# Altium integrated library Inductor - RF.IntLib: 95 symbols (part 1 of 2)
Pins are listed as number, name and electrical type; pins without a type are passive.

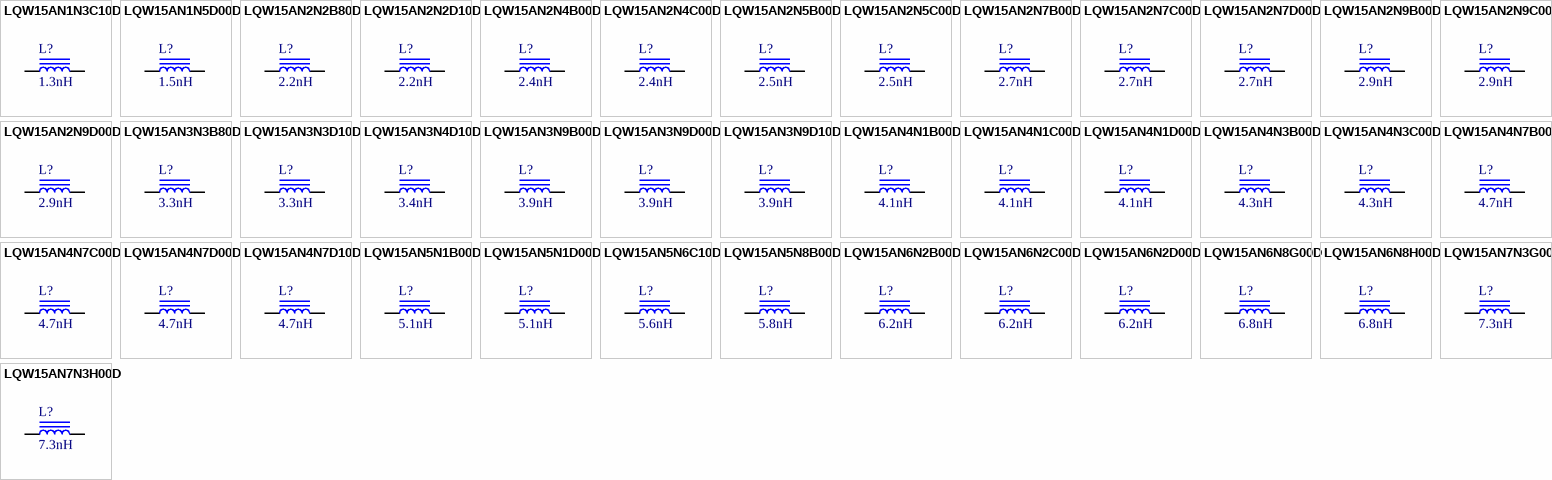
[diagram p0: symbols LQW15AN1N3C10D to LQW15AN7N3H00D]

## LQW15AN1N3C10D
designator L?, comment 1.3nH
FIXED IND 1.3NH 1.2A 17 MOHM 0402; Part Number: LQW15AN1N3C10D; Manufacturer: Murata Electronics North America; TemperatureRange: -55C ~ 125C; Tolerance: 0.2nH; Type: Wirewound; Q at Frequency: 20 @ 250MHz; DC Resistance: 17 mOhm Max; Shielding: Unshielded; Value: 1.3nH; PartId: 6437; Supplier 1: Digi-Key; Supplier Part Number 1: 490-6780-2-ND; ComponentLink1Description: Datasheet; ComponentLink1URL: http://search.murata.co.jp/Ceramy/image/img/PDF/ENG/L0075S0080LQW15A_10.pdf; ComponentLink2Description: Digi-Key listing; ComponentLink2URL: http://digikey.com/product-detail/en/LQW15AN1N3C10D/490-6780-2-ND/2594865; Price: 0.088; Device Package: 0402 (1005 Metric)
footprint IND 0402/1005 RF WW
pins: 1, 2

## LQW15AN1N5D00D
designator L?, comment 1.5nH
FIXED IND 1.5NH 1A 30 MOHM 0402; Part Number: LQW15AN1N5D00D; Manufacturer: Murata Electronics North America; TemperatureRange: -55C ~ 125C; Tolerance: 0.5nH; Type: Wirewound; Q at Frequency: 10 @ 250MHz; DC Resistance: 30 mOhm Max; Shielding: Unshielded; Value: 1.5nH; PartId: 6359; Supplier 1: Digi-Key; Supplier Part Number 1: 490-1136-2-ND; ComponentLink1Description: Datasheet; ComponentLink1URL: http://search.murata.co.jp/Ceramy/image/img/PDF/ENG/L0075S0080LQW15A_00.pdf; ComponentLink2Description: Digi-Key listing; ComponentLink2URL: http://digikey.com/product-detail/en/LQW15AN1N5D00D/490-1136-2-ND/584345; Price: 0.0689; Device Package: 0402 (1005 Metric)
footprint IND 0402/1005 RF WW
pins: 1, 2

## LQW15AN2N2B80D
designator L?, comment 2.2nH
FIXED IND 2.2NH 2.53A 22 MOHM; Part Number: LQW15AN2N2B80D; Manufacturer: Murata Electronics North America; TemperatureRange: -55C ~ 125C; Tolerance: 0.1nH; Type: Wirewound; Q at Frequency: 30 @ 250MHz; DC Resistance: 22 mOhm Max; Shielding: Unshielded; Value: 2.2nH; PartId: 6439; Supplier 1: Digi-Key; Supplier Part Number 1: 490-7632-2-ND; ComponentLink1Description: Datasheet; ComponentLink1URL: http://psearch.murata.com/inductor/product/LQW15AN2N2B80%23.pdf; ComponentLink2Description: Digi-Key listing; ComponentLink2URL: http://digikey.com/product-detail/en/LQW15AN2N2B80D/490-7632-2-ND/4292345; Price: 0.1102; Device Package: 0402 (1005 Metric)
footprint IND 0402/1005 RF WW
pins: 1, 2

## LQW15AN2N2D10D
designator L?, comment 2.2nH
FIXED IND 2.2NH 1A 27 MOHM 0402; Part Number: LQW15AN2N2D10D; Manufacturer: Murata Electronics North America; TemperatureRange: -55C ~ 125C; Tolerance: 0.5nH; Type: Wirewound; Q at Frequency: 25 @ 250MHz; DC Resistance: 27 mOhm Max; Shielding: Unshielded; Value: 2.2nH; PartId: 6432; Supplier 1: Digi-Key; Supplier Part Number 1: 490-6795-2-ND; ComponentLink1Description: Datasheet; ComponentLink1URL: http://search.murata.co.jp/Ceramy/image/img/PDF/ENG/L0075S0080LQW15A_10.pdf; ComponentLink2Description: Digi-Key listing; ComponentLink2URL: http://digikey.com/product-detail/en/LQW15AN2N2D10D/490-6795-2-ND/2594881; Price: 0.0843; Device Package: 0402 (1005 Metric)
footprint IND 0402/1005 RF WW
pins: 1, 2

## LQW15AN2N4B00D
designator L?, comment 2.4nH
FIXED IND 2.4NH 850MA 50 MOHM; Part Number: LQW15AN2N4B00D; Manufacturer: Murata Electronics North America; TemperatureRange: -55C ~ 125C; Tolerance: 0.1nH; Type: Wirewound; Q at Frequency: 20 @ 250MHz; DC Resistance: 50 mOhm Max; Shielding: Unshielded; Value: 2.4nH; PartId: 6422; Supplier 1: Digi-Key; Supplier Part Number 1: 490-6796-2-ND; ComponentLink1Description: Datasheet; ComponentLink1URL: http://search.murata.co.jp/Ceramy/image/img/PDF/ENG/L0075S0080LQW15A_00.pdf; ComponentLink2Description: Digi-Key listing; ComponentLink2URL: http://digikey.com/product-detail/en/LQW15AN2N4B00D/490-6796-2-ND/2594882; Price: 0.0807; Device Package: 0402 (1005 Metric)
footprint IND 0402/1005 RF WW
pins: 1, 2

## LQW15AN2N4C00D
designator L?, comment 2.4nH
FIXED IND 2.4NH 850MA 50 MOHM; Part Number: LQW15AN2N4C00D; Manufacturer: Murata Electronics North America; TemperatureRange: -55C ~ 125C; Tolerance: 0.2nH; Type: Wirewound; Q at Frequency: 20 @ 250MHz; DC Resistance: 50 mOhm Max; Shielding: Unshielded; Value: 2.4nH; PartId: 6379; Supplier 1: Digi-Key; Supplier Part Number 1: 490-6797-2-ND; ComponentLink1Description: Datasheet; ComponentLink1URL: http://search.murata.co.jp/Ceramy/image/img/PDF/ENG/L0075S0080LQW15A_00.pdf; ComponentLink2Description: Digi-Key listing; ComponentLink2URL: http://digikey.com/product-detail/en/LQW15AN2N4C00D/490-6797-2-ND/2594883; Price: 0.077; Device Package: 0402 (1005 Metric)
footprint IND 0402/1005 RF WW
pins: 1, 2

## LQW15AN2N5B00D
designator L?, comment 2.5nH
FIXED IND 2.5NH 850MA 50 MOHM; Part Number: LQW15AN2N5B00D; Manufacturer: Murata Electronics North America; TemperatureRange: -55C ~ 125C; Tolerance: 0.1nH; Type: Wirewound; Q at Frequency: 20 @ 250MHz; DC Resistance: 50 mOhm Max; Shielding: Unshielded; Value: 2.5nH; PartId: 6407; Supplier 1: Digi-Key; Supplier Part Number 1: 490-8437-2-ND; ComponentLink1Description: Datasheet; ComponentLink1URL: http://search.murata.co.jp/Ceramy/image/img/PDF/ENG/L0075S0080LQW15A_00.pdf; ComponentLink2Description: Digi-Key listing; ComponentLink2URL: http://digikey.com/product-detail/en/LQW15AN2N5B00D/490-8437-2-ND/2594886; Price: 0.0807; Device Package: 0402 (1005 Metric)
footprint IND 0402/1005 RF WW
pins: 1, 2

## LQW15AN2N5C00D
designator L?, comment 2.5nH
FIXED IND 2.5NH 850MA 50 MOHM; Part Number: LQW15AN2N5C00D; Manufacturer: Murata Electronics North America; TemperatureRange: -55C ~ 125C; Tolerance: 0.2nH; Type: Wirewound; Q at Frequency: 20 @ 250MHz; DC Resistance: 50 mOhm Max; Shielding: Unshielded; Value: 2.5nH; PartId: 6388; Supplier 1: Digi-Key; Supplier Part Number 1: 490-6798-2-ND; ComponentLink1Description: Datasheet; ComponentLink1URL: http://search.murata.co.jp/Ceramy/image/img/PDF/ENG/L0075S0080LQW15A_00.pdf; ComponentLink2Description: Digi-Key listing; ComponentLink2URL: http://digikey.com/product-detail/en/LQW15AN2N5C00D/490-6798-2-ND/2594887; Price: 0.077; Device Package: 0402 (1005 Metric)
footprint IND 0402/1005 RF WW
pins: 1, 2

## LQW15AN2N7B00D
designator L?, comment 2.7nH
FIXED IND 2.7NH 850MA 50 MOHM; Part Number: LQW15AN2N7B00D; Manufacturer: Murata Electronics North America; TemperatureRange: -55C ~ 125C; Tolerance: 0.1nH; Type: Wirewound; Q at Frequency: 20 @ 250MHz; DC Resistance: 50 mOhm Max; Shielding: Unshielded; Value: 2.7nH; PartId: 6398; Supplier 1: Digi-Key; Supplier Part Number 1: 490-6799-2-ND; ComponentLink1Description: Datasheet; ComponentLink1URL: http://search.murata.co.jp/Ceramy/image/img/PDF/ENG/L0075S0080LQW15A_00.pdf; ComponentLink2Description: Digi-Key listing; ComponentLink2URL: http://digikey.com/product-detail/en/LQW15AN2N7B00D/490-6799-2-ND/2594889; Price: 0.0807; Device Package: 0402 (1005 Metric)
footprint IND 0402/1005 RF WW
pins: 1, 2

## LQW15AN2N7C00D
designator L?, comment 2.7nH
FIXED IND 2.7NH 850MA 50 MOHM; Part Number: LQW15AN2N7C00D; Manufacturer: Murata Electronics North America; TemperatureRange: -55C ~ 125C; Tolerance: 0.2nH; Type: Wirewound; Q at Frequency: 20 @ 250MHz; DC Resistance: 50 mOhm Max; Shielding: Unshielded; Value: 2.7nH; PartId: 6380; Supplier 1: Digi-Key; Supplier Part Number 1: 490-6800-2-ND; ComponentLink1Description: Datasheet; ComponentLink1URL: http://search.murata.co.jp/Ceramy/image/img/PDF/ENG/L0075S0080LQW15A_00.pdf; ComponentLink2Description: Digi-Key listing; ComponentLink2URL: http://digikey.com/product-detail/en/LQW15AN2N7C00D/490-6800-2-ND/2594890; Price: 0.077; Device Package: 0402 (1005 Metric)
footprint IND 0402/1005 RF WW
pins: 1, 2

## LQW15AN2N7D00D
designator L?, comment 2.7nH
FIXED IND 2.7NH 850MA 50 MOHM; Part Number: LQW15AN2N7D00D; Manufacturer: Murata Electronics North America; TemperatureRange: -55C ~ 125C; Tolerance: 0.5nH; Type: Wirewound; Q at Frequency: 20 @ 250MHz; DC Resistance: 50 mOhm Max; Shielding: Unshielded; Value: 2.7nH; PartId: 6356; Supplier 1: Digi-Key; Supplier Part Number 1: 490-1137-2-ND; ComponentLink1Description: Datasheet; ComponentLink1URL: http://search.murata.co.jp/Ceramy/image/img/PDF/ENG/L0075S0080LQW15A_00.pdf; ComponentLink2Description: Digi-Key listing; ComponentLink2URL: http://digikey.com/product-detail/en/LQW15AN2N7D00D/490-1137-2-ND/584346; Price: 0.0689; Device Package: 0402 (1005 Metric)
footprint IND 0402/1005 RF WW
pins: 1, 2

## LQW15AN2N9B00D
designator L?, comment 2.9nH
FIXED IND 2.9NH 750MA 70 MOHM; Part Number: LQW15AN2N9B00D; Manufacturer: Murata Electronics North America; TemperatureRange: -55C ~ 125C; Tolerance: 0.1nH; Type: Wirewound; Q at Frequency: 20 @ 250MHz; DC Resistance: 70 mOhm Max; Shielding: Unshielded; Value: 2.9nH; PartId: 6410; Supplier 1: Digi-Key; Supplier Part Number 1: 490-6801-2-ND; ComponentLink1Description: Datasheet; ComponentLink1URL: http://search.murata.co.jp/Ceramy/image/img/PDF/ENG/L0075S0080LQW15A_00.pdf; ComponentLink2Description: Digi-Key listing; ComponentLink2URL: http://digikey.com/product-detail/en/LQW15AN2N9B00D/490-6801-2-ND/2594891; Price: 0.0807; Device Package: 0402 (1005 Metric)
footprint IND 0402/1005 RF WW
pins: 1, 2

## LQW15AN2N9C00D
designator L?, comment 2.9nH
FIXED IND 2.9NH 750MA 70 MOHM; Part Number: LQW15AN2N9C00D; Manufacturer: Murata Electronics North America; TemperatureRange: -55C ~ 125C; Tolerance: 0.2nH; Type: Wirewound; Q at Frequency: 20 @ 250MHz; DC Resistance: 70 mOhm Max; Shielding: Unshielded; Value: 2.9nH; PartId: 6390; Supplier 1: Digi-Key; Supplier Part Number 1: 490-8438-2-ND; ComponentLink1Description: Datasheet; ComponentLink1URL: http://search.murata.co.jp/Ceramy/image/img/PDF/ENG/L0075S0080LQW15A_00.pdf; ComponentLink2Description: Digi-Key listing; ComponentLink2URL: http://digikey.com/product-detail/en/LQW15AN2N9C00D/490-8438-2-ND/2594892; Price: 0.077; Device Package: 0402 (1005 Metric)
footprint IND 0402/1005 RF WW
pins: 1, 2

## LQW15AN2N9D00D
designator L?, comment 2.9nH
FIXED IND 2.9NH 750MA 70 MOHM; Part Number: LQW15AN2N9D00D; Manufacturer: Murata Electronics North America; TemperatureRange: -55C ~ 125C; Tolerance: 0.5nH; Type: Wirewound; Q at Frequency: 20 @ 250MHz; DC Resistance: 70 mOhm Max; Shielding: Unshielded; Value: 2.9nH; PartId: 6375; Supplier 1: Digi-Key; Supplier Part Number 1: 490-8439-2-ND; ComponentLink1Description: Datasheet; ComponentLink1URL: http://search.murata.co.jp/Ceramy/image/img/PDF/ENG/L0075S0080LQW15A_00.pdf; ComponentLink2Description: Digi-Key listing; ComponentLink2URL: http://digikey.com/product-detail/en/LQW15AN2N9D00D/490-8439-2-ND/2594893; Price: 0.0733; Device Package: 0402 (1005 Metric)
footprint IND 0402/1005 RF WW
pins: 1, 2

## LQW15AN3N3B80D
designator L?, comment 3.3nH
FIXED IND 3.3NH 2A 30 MOHM 0402; Part Number: LQW15AN3N3B80D; Manufacturer: Murata Electronics North America; TemperatureRange: -55C ~ 125C; Tolerance: 0.1nH; Type: Wirewound; Q at Frequency: 30 @ 250MHz; DC Resistance: 30 mOhm Max; Shielding: Unshielded; Value: 3.3nH; PartId: 6440; Supplier 1: Digi-Key; Supplier Part Number 1: 490-7641-2-ND; ComponentLink1Description: Datasheet; ComponentLink1URL: http://psearch.murata.com/inductor/product/LQW15AN3N3B80%23.pdf; ComponentLink2Description: Digi-Key listing; ComponentLink2URL: http://digikey.com/product-detail/en/LQW15AN3N3B80D/490-7641-2-ND/4292354; Price: 0.1102; Device Package: 0402 (1005 Metric)
footprint IND 0402/1005 RF WW
pins: 1, 2

## LQW15AN3N3D10D
designator L?, comment 3.3nH
FIXED IND 3.3NH 900MA 40 MOHM; Part Number: LQW15AN3N3D10D; Manufacturer: Murata Electronics North America; TemperatureRange: -55C ~ 125C; Tolerance: 0.5nH; Type: Wirewound; Q at Frequency: 30 @ 250MHz; DC Resistance: 40 mOhm Max; Shielding: Unshielded; Value: 3.3nH; PartId: 6433; Supplier 1: Digi-Key; Supplier Part Number 1: 490-6809-2-ND; ComponentLink1Description: Datasheet; ComponentLink1URL: http://search.murata.co.jp/Ceramy/image/img/PDF/ENG/L0075S0080LQW15A_10.pdf; ComponentLink2Description: Digi-Key listing; ComponentLink2URL: http://digikey.com/product-detail/en/LQW15AN3N3D10D/490-6809-2-ND/2594904; Price: 0.0843; Device Package: 0402 (1005 Metric)
footprint IND 0402/1005 RF WW
pins: 1, 2

## LQW15AN3N4D10D
designator L?, comment 3.4nH
FIXED IND 3.4NH 900MA 40 MOHM; Part Number: LQW15AN3N4D10D; Manufacturer: Murata Electronics North America; TemperatureRange: -55C ~ 125C; Tolerance: 0.5nH; Type: Wirewound; Q at Frequency: 30 @ 250MHz; DC Resistance: 40 mOhm Max; Shielding: Unshielded; Value: 3.4nH; PartId: 6434; Supplier 1: Digi-Key; Supplier Part Number 1: 490-6810-2-ND; ComponentLink1Description: Datasheet; ComponentLink1URL: http://search.murata.co.jp/Ceramy/image/img/PDF/ENG/L0075S0080LQW15A_10.pdf; ComponentLink2Description: Digi-Key listing; ComponentLink2URL: http://digikey.com/product-detail/en/LQW15AN3N4D10D/490-6810-2-ND/2594906; Price: 0.0843; Device Package: 0402 (1005 Metric)
footprint IND 0402/1005 RF WW
pins: 1, 2

## LQW15AN3N9B00D
designator L?, comment 3.9nH
FIXED IND 3.9NH 750MA 70 MOHM; Part Number: LQW15AN3N9B00D; Manufacturer: Murata Electronics North America; TemperatureRange: -55C ~ 125C; Tolerance: 0.1nH; Type: Wirewound; Q at Frequency: 25 @ 250MHz; DC Resistance: 70 mOhm Max; Shielding: Unshielded; Value: 3.9nH; PartId: 6424; Supplier 1: Digi-Key; Supplier Part Number 1: 490-6812-2-ND; ComponentLink1Description: Datasheet; ComponentLink1URL: http://search.murata.co.jp/Ceramy/image/img/PDF/ENG/L0075S0080LQW15A_00.pdf; ComponentLink2Description: Digi-Key listing; ComponentLink2URL: http://digikey.com/product-detail/en/LQW15AN3N9B00D/490-6812-2-ND/2594909; Price: 0.0807; Device Package: 0402 (1005 Metric)
footprint IND 0402/1005 RF WW
pins: 1, 2

## LQW15AN3N9D00D
designator L?, comment 3.9nH
FIXED IND 3.9NH 750MA 70 MOHM; Part Number: LQW15AN3N9D00D; Manufacturer: Murata Electronics North America; TemperatureRange: -55C ~ 125C; Tolerance: 0.5nH; Type: Wirewound; Q at Frequency: 25 @ 250MHz; DC Resistance: 70 mOhm Max; Shielding: Unshielded; Value: 3.9nH; PartId: 6372; Supplier 1: Digi-Key; Supplier Part Number 1: 490-6814-2-ND; ComponentLink1Description: Datasheet; ComponentLink1URL: http://search.murata.co.jp/Ceramy/image/img/PDF/ENG/L0075S0080LQW15A_00.pdf; ComponentLink2Description: Digi-Key listing; ComponentLink2URL: http://digikey.com/product-detail/en/LQW15AN3N9D00D/490-6814-2-ND/2594911; Price: 0.0733; Device Package: 0402 (1005 Metric)
footprint IND 0402/1005 RF WW
pins: 1, 2

## LQW15AN3N9D10D
designator L?, comment 3.9nH
FIXED IND 3.9NH 900MA 40 MOHM; Part Number: LQW15AN3N9D10D; Manufacturer: Murata Electronics North America; TemperatureRange: -55C ~ 125C; Tolerance: 0.5nH; Type: Wirewound; Q at Frequency: 30 @ 250MHz; DC Resistance: 40 mOhm Max; Shielding: Unshielded; Value: 3.9nH; PartId: 6435; Supplier 1: Digi-Key; Supplier Part Number 1: 490-6815-2-ND; ComponentLink1Description: Datasheet; ComponentLink1URL: http://search.murata.co.jp/Ceramy/image/img/PDF/ENG/L0075S0080LQW15A_10.pdf; ComponentLink2Description: Digi-Key listing; ComponentLink2URL: http://digikey.com/product-detail/en/LQW15AN3N9D10D/490-6815-2-ND/2594912; Price: 0.0843; Device Package: 0402 (1005 Metric)
footprint IND 0402/1005 RF WW
pins: 1, 2

## LQW15AN4N1B00D
designator L?, comment 4.1nH
FIXED IND 4.1NH 750MA 70 MOHM; Part Number: LQW15AN4N1B00D; Manufacturer: Murata Electronics North America; TemperatureRange: -55C ~ 125C; Tolerance: 0.1nH; Type: Wirewound; Q at Frequency: 25 @ 250MHz; DC Resistance: 70 mOhm Max; Shielding: Unshielded; Value: 4.1nH; PartId: 6400; Supplier 1: Digi-Key; Supplier Part Number 1: 490-6821-2-ND; ComponentLink1Description: Datasheet; ComponentLink1URL: http://search.murata.co.jp/Ceramy/image/img/PDF/ENG/L0075S0080LQW15A_00.pdf; ComponentLink2Description: Digi-Key listing; ComponentLink2URL: http://digikey.com/product-detail/en/LQW15AN4N1B00D/490-6821-2-ND/2594921; Price: 0.0807; Device Package: 0402 (1005 Metric)
footprint IND 0402/1005 RF WW
pins: 1, 2

## LQW15AN4N1C00D
designator L?, comment 4.1nH
FIXED IND 4.1NH 750MA 70 MOHM; Part Number: LQW15AN4N1C00D; Manufacturer: Murata Electronics North America; TemperatureRange: -55C ~ 125C; Tolerance: 0.2nH; Type: Wirewound; Q at Frequency: 25 @ 250MHz; DC Resistance: 70 mOhm Max; Shielding: Unshielded; Value: 4.1nH; PartId: 6382; Supplier 1: Digi-Key; Supplier Part Number 1: 490-6822-2-ND; ComponentLink1Description: Datasheet; ComponentLink1URL: http://search.murata.co.jp/Ceramy/image/img/PDF/ENG/L0075S0080LQW15A_00.pdf; ComponentLink2Description: Digi-Key listing; ComponentLink2URL: http://digikey.com/product-detail/en/LQW15AN4N1C00D/490-6822-2-ND/2594922; Price: 0.077; Device Package: 0402 (1005 Metric)
footprint IND 0402/1005 RF WW
pins: 1, 2

## LQW15AN4N1D00D
designator L?, comment 4.1nH
FIXED IND 4.1NH 750MA 70 MOHM; Part Number: LQW15AN4N1D00D; Manufacturer: Murata Electronics North America; TemperatureRange: -55C ~ 125C; Tolerance: 0.5nH; Type: Wirewound; Q at Frequency: 25 @ 250MHz; DC Resistance: 70 mOhm Max; Shielding: Unshielded; Value: 4.1nH; PartId: 6376; Supplier 1: Digi-Key; Supplier Part Number 1: 490-6823-2-ND; ComponentLink1Description: Datasheet; ComponentLink1URL: http://search.murata.co.jp/Ceramy/image/img/PDF/ENG/L0075S0080LQW15A_00.pdf; ComponentLink2Description: Digi-Key listing; ComponentLink2URL: http://digikey.com/product-detail/en/LQW15AN4N1D00D/490-6823-2-ND/2594923; Price: 0.0733; Device Package: 0402 (1005 Metric)
footprint IND 0402/1005 RF WW
pins: 1, 2

## LQW15AN4N3B00D
designator L?, comment 4.3nH
FIXED IND 4.3NH 750MA 70 MOHM; Part Number: LQW15AN4N3B00D; Manufacturer: Murata Electronics North America; TemperatureRange: -55C ~ 125C; Tolerance: 0.1nH; Type: Wirewound; Q at Frequency: 25 @ 250MHz; DC Resistance: 70 mOhm Max; Shielding: Unshielded; Value: 4.3nH; PartId: 6396; Supplier 1: Digi-Key; Supplier Part Number 1: 490-6824-2-ND; ComponentLink1Description: Datasheet; ComponentLink1URL: http://search.murata.co.jp/Ceramy/image/img/PDF/ENG/L0075S0080LQW15A_00.pdf; ComponentLink2Description: Digi-Key listing; ComponentLink2URL: http://digikey.com/product-detail/en/LQW15AN4N3B00D/490-6824-2-ND/2594924; Price: 0.0807; Device Package: 0402 (1005 Metric)
footprint IND 0402/1005 RF WW
pins: 1, 2

## LQW15AN4N3C00D
designator L?, comment 4.3nH
FIXED IND 4.3NH 750MA 70 MOHM; Part Number: LQW15AN4N3C00D; Manufacturer: Murata Electronics North America; TemperatureRange: -55C ~ 125C; Tolerance: 0.2nH; Type: Wirewound; Q at Frequency: 25 @ 250MHz; DC Resistance: 70 mOhm Max; Shielding: Unshielded; Value: 4.3nH; PartId: 6363; Supplier 1: Digi-Key; Supplier Part Number 1: 490-1138-2-ND; ComponentLink1Description: Datasheet; ComponentLink1URL: http://search.murata.co.jp/Ceramy/image/img/PDF/ENG/L0075S0080LQW15A_00.pdf; ComponentLink2Description: Digi-Key listing; ComponentLink2URL: http://digikey.com/product-detail/en/LQW15AN4N3C00D/490-1138-2-ND/584347; Price: 0.0723; Device Package: 0402 (1005 Metric)
footprint IND 0402/1005 RF WW
pins: 1, 2

## LQW15AN4N7B00D
designator L?, comment 4.7nH
FIXED IND 4.7NH 750MA 70 MOHM; Part Number: LQW15AN4N7B00D; Manufacturer: Murata Electronics North America; TemperatureRange: -55C ~ 125C; Tolerance: 0.1nH; Type: Wirewound; Q at Frequency: 25 @ 250MHz; DC Resistance: 70 mOhm Max; Shielding: Unshielded; Value: 4.7nH; PartId: 6399; Supplier 1: Digi-Key; Supplier Part Number 1: 490-6825-2-ND; ComponentLink1Description: Datasheet; ComponentLink1URL: http://search.murata.co.jp/Ceramy/image/img/PDF/ENG/L0075S0080LQW15A_00.pdf; ComponentLink2Description: Digi-Key listing; ComponentLink2URL: http://digikey.com/product-detail/en/LQW15AN4N7B00D/490-6825-2-ND/2594926; Price: 0.0807; Device Package: 0402 (1005 Metric)
footprint IND 0402/1005 RF WW
pins: 1, 2

## LQW15AN4N7C00D
designator L?, comment 4.7nH
FIXED IND 4.7NH 750MA 70 MOHM; Part Number: LQW15AN4N7C00D; Manufacturer: Murata Electronics North America; TemperatureRange: -55C ~ 125C; Tolerance: 0.2nH; Type: Wirewound; Q at Frequency: 25 @ 250MHz; DC Resistance: 70 mOhm Max; Shielding: Unshielded; Value: 4.7nH; PartId: 6364; Supplier 1: Digi-Key; Supplier Part Number 1: 490-1139-2-ND; ComponentLink1Description: Datasheet; ComponentLink1URL: http://search.murata.co.jp/Ceramy/image/img/PDF/ENG/L0075S0080LQW15A_00.pdf; ComponentLink2Description: Digi-Key listing; ComponentLink2URL: http://digikey.com/product-detail/en/LQW15AN4N7C00D/490-1139-2-ND/584348; Price: 0.0723; Device Package: 0402 (1005 Metric)
footprint IND 0402/1005 RF WW
pins: 1, 2

## LQW15AN4N7D00D
designator L?, comment 4.7nH
FIXED IND 4.7NH 750MA 70 MOHM; Part Number: LQW15AN4N7D00D; Manufacturer: Murata Electronics North America; TemperatureRange: -55C ~ 125C; Tolerance: 0.5nH; Type: Wirewound; Q at Frequency: 25 @ 250MHz; DC Resistance: 70 mOhm Max; Shielding: Unshielded; Value: 4.7nH; PartId: 6370; Supplier 1: Digi-Key; Supplier Part Number 1: 490-6826-2-ND; ComponentLink1Description: Datasheet; ComponentLink1URL: http://search.murata.co.jp/Ceramy/image/img/PDF/ENG/L0075S0080LQW15A_00.pdf; ComponentLink2Description: Digi-Key listing; ComponentLink2URL: http://digikey.com/product-detail/en/LQW15AN4N7D00D/490-6826-2-ND/2594927; Price: 0.0733; Device Package: 0402 (1005 Metric)
footprint IND 0402/1005 RF WW
pins: 1, 2

## LQW15AN4N7D10D
designator L?, comment 4.7nH
FIXED IND 4.7NH 800MA 51 MOHM; Part Number: LQW15AN4N7D10D; Manufacturer: Murata Electronics North America; TemperatureRange: -55C ~ 125C; Tolerance: 0.5nH; Type: Wirewound; Q at Frequency: 30 @ 250MHz; DC Resistance: 51 mOhm Max; Shielding: Unshielded; Value: 4.7nH; PartId: 6431; Supplier 1: Digi-Key; Supplier Part Number 1: 490-8442-2-ND; ComponentLink1Description: Datasheet; ComponentLink1URL: http://search.murata.co.jp/Ceramy/image/img/PDF/ENG/L0075S0080LQW15A_10.pdf; ComponentLink2Description: Digi-Key listing; ComponentLink2URL: http://digikey.com/product-detail/en/LQW15AN4N7D10D/490-8442-2-ND/2594928; Price: 0.0843; Device Package: 0402 (1005 Metric)
footprint IND 0402/1005 RF WW
pins: 1, 2

## LQW15AN5N1B00D
designator L?, comment 5.1nH
FIXED IND 5.1NH 600MA 120 MOHM; Part Number: LQW15AN5N1B00D; Manufacturer: Murata Electronics North America; TemperatureRange: -55C ~ 125C; Tolerance: 0.1nH; Type: Wirewound; Q at Frequency: 25 @ 250MHz; DC Resistance: 120 mOhm Max; Shielding: Unshielded; Value: 5.1nH; PartId: 6413; Supplier 1: Digi-Key; Supplier Part Number 1: 490-6831-2-ND; ComponentLink1Description: Datasheet; ComponentLink1URL: http://search.murata.co.jp/Ceramy/image/img/PDF/ENG/L0075S0080LQW15A_00.pdf; ComponentLink2Description: Digi-Key listing; ComponentLink2URL: http://digikey.com/product-detail/en/LQW15AN5N1B00D/490-6831-2-ND/2594934; Price: 0.0807; Device Package: 0402 (1005 Metric)
footprint IND 0402/1005 RF WW
pins: 1, 2

## LQW15AN5N1D00D
designator L?, comment 5.1nH
FIXED IND 5.1NH 600MA 120 MOHM; Part Number: LQW15AN5N1D00D; Manufacturer: Murata Electronics North America; TemperatureRange: -55C ~ 125C; Tolerance: 0.5nH; Type: Wirewound; Q at Frequency: 25 @ 250MHz; DC Resistance: 120 mOhm Max; Shielding: Unshielded; Value: 5.1nH; PartId: 6354; Supplier 1: Digi-Key; Supplier Part Number 1: 490-1140-2-ND; ComponentLink1Description: Datasheet; ComponentLink1URL: http://search.murata.co.jp/Ceramy/image/img/PDF/ENG/L0075S0080LQW15A_00.pdf; ComponentLink2Description: Digi-Key listing; ComponentLink2URL: http://digikey.com/product-detail/en/LQW15AN5N1D00D/490-1140-2-ND/584349; Price: 0.0689; Device Package: 0402 (1005 Metric)
footprint IND 0402/1005 RF WW
pins: 1, 2

## LQW15AN5N6C10D
designator L?, comment 5.6nH
FIXED IND 5.6NH 800MA 51 MOHM; Part Number: LQW15AN5N6C10D; Manufacturer: Murata Electronics North America; TemperatureRange: -55C ~ 125C; Tolerance: 0.2nH; Type: Wirewound; Q at Frequency: 30 @ 250MHz; DC Resistance: 51 mOhm Max; Shielding: Unshielded; Value: 5.6nH; PartId: 6436; Supplier 1: Digi-Key; Supplier Part Number 1: 490-6833-2-ND; ComponentLink1Description: Datasheet; ComponentLink1URL: http://search.murata.co.jp/Ceramy/image/img/PDF/ENG/L0075S0080LQW15A_10.pdf; ComponentLink2Description: Digi-Key listing; ComponentLink2URL: http://digikey.com/product-detail/en/LQW15AN5N6C10D/490-6833-2-ND/2594938; Price: 0.088; Device Package: 0402 (1005 Metric)
footprint IND 0402/1005 RF WW
pins: 1, 2

## LQW15AN5N8B00D
designator L?, comment 5.8nH
FIXED IND 5.8NH 700MA 120 MOHM; Part Number: LQW15AN5N8B00D; Manufacturer: Murata Electronics North America; TemperatureRange: -55C ~ 125C; Tolerance: 0.1nH; Type: Wirewound; Q at Frequency: 25 @ 250MHz; DC Resistance: 120 mOhm Max; Shielding: Unshielded; Value: 5.8nH; PartId: 6405; Supplier 1: Digi-Key; Supplier Part Number 1: 490-6835-2-ND; ComponentLink1Description: Datasheet; ComponentLink1URL: http://search.murata.co.jp/Ceramy/image/img/PDF/ENG/L0075S0080LQW15A_00.pdf; ComponentLink2Description: Digi-Key listing; ComponentLink2URL: http://digikey.com/product-detail/en/LQW15AN5N8B00D/490-6835-2-ND/2594940; Price: 0.0807; Device Package: 0402 (1005 Metric)
footprint IND 0402/1005 RF WW
pins: 1, 2

## LQW15AN6N2B00D
designator L?, comment 6.2nH
FIXED IND 6.2NH 700MA 90 MOHM; Part Number: LQW15AN6N2B00D; Manufacturer: Murata Electronics North America; TemperatureRange: -55C ~ 125C; Tolerance: 0.1nH; Type: Wirewound; Q at Frequency: 25 @ 250MHz; DC Resistance: 90 mOhm Max; Shielding: Unshielded; Value: 6.2nH; PartId: 6415; Supplier 1: Digi-Key; Supplier Part Number 1: 490-6838-2-ND; ComponentLink1Description: Datasheet; ComponentLink1URL: http://search.murata.co.jp/Ceramy/image/img/PDF/ENG/L0075S0080LQW15A_00.pdf; ComponentLink2Description: Digi-Key listing; ComponentLink2URL: http://digikey.com/product-detail/en/LQW15AN6N2B00D/490-6838-2-ND/2594947; Price: 0.0807; Device Package: 0402 (1005 Metric)
footprint IND 0402/1005 RF WW
pins: 1, 2

## LQW15AN6N2C00D
designator L?, comment 6.2nH
FIXED IND 6.2NH 700MA 90 MOHM; Part Number: LQW15AN6N2C00D; Manufacturer: Murata Electronics North America; TemperatureRange: -55C ~ 125C; Tolerance: 0.2nH; Type: Wirewound; Q at Frequency: 25 @ 250MHz; DC Resistance: 90 mOhm Max; Shielding: Unshielded; Value: 6.2nH; PartId: 6383; Supplier 1: Digi-Key; Supplier Part Number 1: 490-6839-2-ND; ComponentLink1Description: Datasheet; ComponentLink1URL: http://search.murata.co.jp/Ceramy/image/img/PDF/ENG/L0075S0080LQW15A_00.pdf; ComponentLink2Description: Digi-Key listing; ComponentLink2URL: http://digikey.com/product-detail/en/LQW15AN6N2C00D/490-6839-2-ND/2594948; Price: 0.077; Device Package: 0402 (1005 Metric)
footprint IND 0402/1005 RF WW
pins: 1, 2

## LQW15AN6N2D00D
designator L?, comment 6.2nH
FIXED IND 6.2NH 700MA 90 MOHM; Part Number: LQW15AN6N2D00D; Manufacturer: Murata Electronics North America; TemperatureRange: -55C ~ 125C; Tolerance: 0.5nH; Type: Wirewound; Q at Frequency: 25 @ 250MHz; DC Resistance: 90 mOhm Max; Shielding: Unshielded; Value: 6.2nH; PartId: 6360; Supplier 1: Digi-Key; Supplier Part Number 1: 490-1141-2-ND; ComponentLink1Description: Datasheet; ComponentLink1URL: http://search.murata.co.jp/Ceramy/image/img/PDF/ENG/L0075S0080LQW15A_00.pdf; ComponentLink2Description: Digi-Key listing; ComponentLink2URL: http://digikey.com/product-detail/en/LQW15AN6N2D00D/490-1141-2-ND/584350; Price: 0.0689; Device Package: 0402 (1005 Metric)
footprint IND 0402/1005 RF WW
pins: 1, 2

## LQW15AN6N8G00D
designator L?, comment 6.8nH
FIXED IND 6.8NH 700MA 90 MOHM; Part Number: LQW15AN6N8G00D; Manufacturer: Murata Electronics North America; TemperatureRange: -55C ~ 125C; Tolerance: 2%; Type: Wirewound; Q at Frequency: 25 @ 250MHz; DC Resistance: 90 mOhm Max; Shielding: Unshielded; Value: 6.8nH; PartId: 6426; Supplier 1: Digi-Key; Supplier Part Number 1: 490-6840-2-ND; ComponentLink1Description: Datasheet; ComponentLink1URL: http://search.murata.co.jp/Ceramy/image/img/PDF/ENG/L0075S0080LQW15A_00.pdf; ComponentLink2Description: Digi-Key listing; ComponentLink2URL: http://digikey.com/product-detail/en/LQW15AN6N8G00D/490-6840-2-ND/2594949; Price: 0.0807; Device Package: 0402 (1005 Metric)
footprint IND 0402/1005 RF WW
pins: 1, 2

## LQW15AN6N8H00D
designator L?, comment 6.8nH
FIXED IND 6.8NH 700MA 90 MOHM; Part Number: LQW15AN6N8H00D; Manufacturer: Murata Electronics North America; TemperatureRange: -55C ~ 125C; Tolerance: 3%; Type: Wirewound; Q at Frequency: 25 @ 250MHz; DC Resistance: 90 mOhm Max; Shielding: Unshielded; Value: 6.8nH; PartId: 6384; Supplier 1: Digi-Key; Supplier Part Number 1: 490-6841-2-ND; ComponentLink1Description: Datasheet; ComponentLink1URL: http://search.murata.co.jp/Ceramy/image/img/PDF/ENG/L0075S0080LQW15A_00.pdf; ComponentLink2Description: Digi-Key listing; ComponentLink2URL: http://digikey.com/product-detail/en/LQW15AN6N8H00D/490-6841-2-ND/2594950; Price: 0.077; Device Package: 0402 (1005 Metric)
footprint IND 0402/1005 RF WW
pins: 1, 2

## LQW15AN7N3G00D
designator L?, comment 7.3nH
FIXED IND 7.3NH 570MA 130 MOHM; Part Number: LQW15AN7N3G00D; Manufacturer: Murata Electronics North America; TemperatureRange: -55C ~ 125C; Tolerance: 2%; Type: Wirewound; Q at Frequency: 25 @ 250MHz; DC Resistance: 130 mOhm Max; Shielding: Unshielded; Value: 7.3nH; PartId: 6427; Supplier 1: Digi-Key; Supplier Part Number 1: 490-6844-2-ND; ComponentLink1Description: Datasheet; ComponentLink1URL: http://search.murata.co.jp/Ceramy/image/img/PDF/ENG/L0075S0080LQW15A_00.pdf; ComponentLink2Description: Digi-Key listing; ComponentLink2URL: http://digikey.com/product-detail/en/LQW15AN7N3G00D/490-6844-2-ND/2594955; Price: 0.0807; Device Package: 0402 (1005 Metric)
footprint IND 0402/1005 RF WW
pins: 1, 2

## LQW15AN7N3H00D
designator L?, comment 7.3nH
FIXED IND 7.3NH 570MA 130 MOHM; Part Number: LQW15AN7N3H00D; Manufacturer: Murata Electronics North America; TemperatureRange: -55C ~ 125C; Tolerance: 3%; Type: Wirewound; Q at Frequency: 25 @ 250MHz; DC Resistance: 130 mOhm Max; Shielding: Unshielded; Value: 7.3nH; PartId: 6393; Supplier 1: Digi-Key; Supplier Part Number 1: 490-6845-2-ND; ComponentLink1Description: Datasheet; ComponentLink1URL: http://search.murata.co.jp/Ceramy/image/img/PDF/ENG/L0075S0080LQW15A_00.pdf; ComponentLink2Description: Digi-Key listing; ComponentLink2URL: http://digikey.com/product-detail/en/LQW15AN7N3H00D/490-6845-2-ND/2594956; Price: 0.077; Device Package: 0402 (1005 Metric)
footprint IND 0402/1005 RF WW
pins: 1, 2

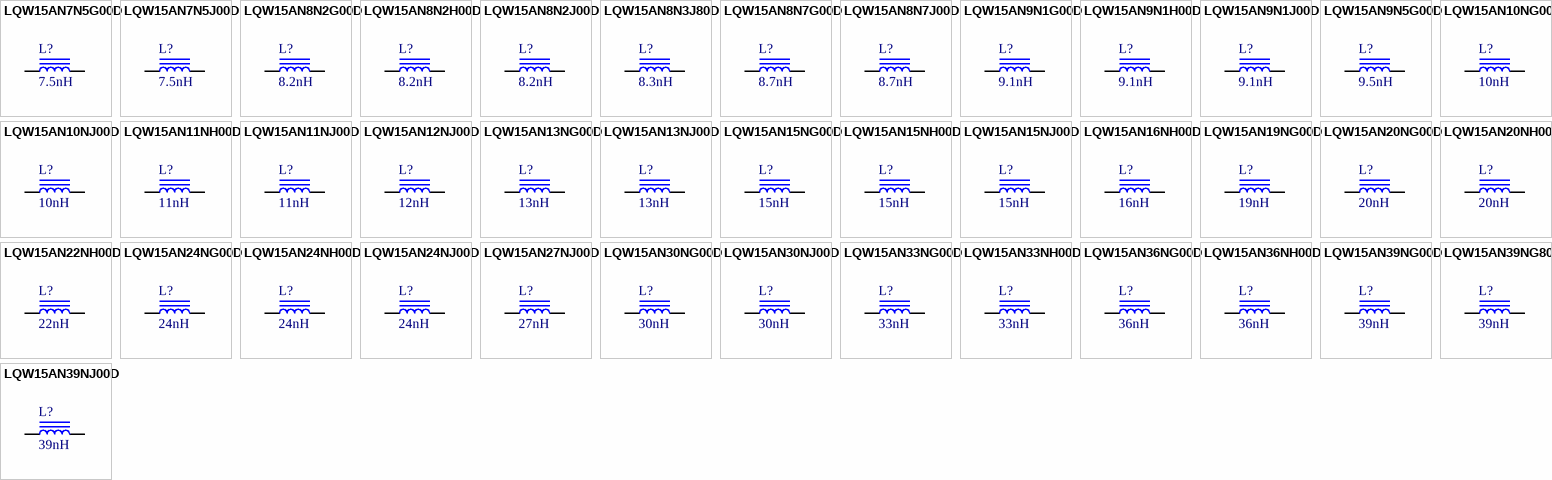
[diagram p1: symbols LQW15AN7N5G00D to LQW15AN39NJ00D]

## LQW15AN7N5G00D
designator L?, comment 7.5nH
FIXED IND 7.5NH 570MA 130 MOHM; Part Number: LQW15AN7N5G00D; Manufacturer: Murata Electronics North America; TemperatureRange: -55C ~ 125C; Tolerance: 2%; Type: Wirewound; Q at Frequency: 25 @ 250MHz; DC Resistance: 130 mOhm Max; Shielding: Unshielded; Value: 7.5nH; PartId: 6416; Supplier 1: Digi-Key; Supplier Part Number 1: 490-6846-2-ND; ComponentLink1Description: Datasheet; ComponentLink1URL: http://search.murata.co.jp/Ceramy/image/img/PDF/ENG/L0075S0080LQW15A_00.pdf; ComponentLink2Description: Digi-Key listing; ComponentLink2URL: http://digikey.com/product-detail/en/LQW15AN7N5G00D/490-6846-2-ND/2594958; Price: 0.0807; Device Package: 0402 (1005 Metric)
footprint IND 0402/1005 RF WW
pins: 1, 2

## LQW15AN7N5J00D
designator L?, comment 7.5nH
FIXED IND 7.5NH 570MA 130 MOHM; Part Number: LQW15AN7N5J00D; Manufacturer: Murata Electronics North America; TemperatureRange: -55C ~ 125C; Tolerance: 5%; Type: Wirewound; Q at Frequency: 25 @ 250MHz; DC Resistance: 130 mOhm Max; Shielding: Unshielded; Value: 7.5nH; PartId: 6355; Supplier 1: Digi-Key; Supplier Part Number 1: 490-1143-2-ND; ComponentLink1Description: Datasheet; ComponentLink1URL: http://search.murata.co.jp/Ceramy/image/img/PDF/ENG/L0075S0080LQW15A_00.pdf; ComponentLink2Description: Digi-Key listing; ComponentLink2URL: http://digikey.com/product-detail/en/LQW15AN7N5J00D/490-1143-2-ND/584352; Price: 0.0689; Device Package: 0402 (1005 Metric)
footprint IND 0402/1005 RF WW
pins: 1, 2

## LQW15AN8N2G00D
designator L?, comment 8.2nH
FIXED IND 8.2NH 540MA 140 MOHM; Part Number: LQW15AN8N2G00D; Manufacturer: Murata Electronics North America; TemperatureRange: -55C ~ 125C; Tolerance: 2%; Type: Wirewound; Q at Frequency: 25 @ 250MHz; DC Resistance: 140 mOhm Max; Shielding: Unshielded; Value: 8.2nH; PartId: 6406; Supplier 1: Digi-Key; Supplier Part Number 1: 490-6849-2-ND; ComponentLink1Description: Datasheet; ComponentLink1URL: http://search.murata.co.jp/Ceramy/image/img/PDF/ENG/L0075S0080LQW15A_00.pdf; ComponentLink2Description: Digi-Key listing; ComponentLink2URL: http://digikey.com/product-detail/en/LQW15AN8N2G00D/490-6849-2-ND/2594961; Price: 0.0807; Device Package: 0402 (1005 Metric)
footprint IND 0402/1005 RF WW
pins: 1, 2

## LQW15AN8N2H00D
designator L?, comment 8.2nH
FIXED IND 8.2NH 540MA 140 MOHM; Part Number: LQW15AN8N2H00D; Manufacturer: Murata Electronics North America; TemperatureRange: -55C ~ 125C; Tolerance: 3%; Type: Wirewound; Q at Frequency: 25 @ 250MHz; DC Resistance: 140 mOhm Max; Shielding: Unshielded; Value: 8.2nH; PartId: 6389; Supplier 1: Digi-Key; Supplier Part Number 1: 490-6850-2-ND; ComponentLink1Description: Datasheet; ComponentLink1URL: http://search.murata.co.jp/Ceramy/image/img/PDF/ENG/L0075S0080LQW15A_00.pdf; ComponentLink2Description: Digi-Key listing; ComponentLink2URL: http://digikey.com/product-detail/en/LQW15AN8N2H00D/490-6850-2-ND/2594962; Price: 0.077; Device Package: 0402 (1005 Metric)
footprint IND 0402/1005 RF WW
pins: 1, 2

## LQW15AN8N2J00D
designator L?, comment 8.2nH
FIXED IND 8.2NH 540MA 140 MOHM; Part Number: LQW15AN8N2J00D; Manufacturer: Murata Electronics North America; TemperatureRange: -55C ~ 125C; Tolerance: 5%; Type: Wirewound; Q at Frequency: 25 @ 250MHz; DC Resistance: 140 mOhm Max; Shielding: Unshielded; Value: 8.2nH; PartId: 6348; Supplier 1: Digi-Key; Supplier Part Number 1: 490-1144-2-ND; ComponentLink1Description: Datasheet; ComponentLink1URL: http://search.murata.co.jp/Ceramy/image/img/PDF/ENG/L0075S0080LQW15A_00.pdf; ComponentLink2Description: Digi-Key listing; ComponentLink2URL: http://digikey.com/product-detail/en/LQW15AN8N2J00D/490-1144-2-ND/584353; Price: 0.0689; Device Package: 0402 (1005 Metric)
footprint IND 0402/1005 RF WW
pins: 1, 2

## LQW15AN8N3J80D
designator L?, comment 8.3nH
FIXED IND 8.3NH 1.5A 69 MOHM 0402; Part Number: LQW15AN8N3J80D; Manufacturer: Murata Electronics North America; TemperatureRange: -55C ~ 125C; Tolerance: 5%; Type: Wirewound; Q at Frequency: 32 @ 250MHz; DC Resistance: 69 mOhm Max; Shielding: Unshielded; Value: 8.3nH; PartId: 6438; Supplier 1: Digi-Key; Supplier Part Number 1: 490-7682-2-ND; ComponentLink1Description: Datasheet; ComponentLink1URL: http://psearch.murata.com/inductor/product/LQW15AN8N3J80%23.pdf; ComponentLink2Description: Digi-Key listing; ComponentLink2URL: http://digikey.com/product-detail/en/LQW15AN8N3J80D/490-7682-2-ND/4292395; Price: 0.0964; Device Package: 0402 (1005 Metric)
footprint IND 0402/1005 RF WW
pins: 1, 2

## LQW15AN8N7G00D
designator L?, comment 8.7nH
FIXED IND 8.7NH 540MA 140 MOHM; Part Number: LQW15AN8N7G00D; Manufacturer: Murata Electronics North America; TemperatureRange: -55C ~ 125C; Tolerance: 2%; Type: Wirewound; Q at Frequency: 25 @ 250MHz; DC Resistance: 140 mOhm Max; Shielding: Unshielded; Value: 8.7nH; PartId: 6418; Supplier 1: Digi-Key; Supplier Part Number 1: 490-6851-2-ND; ComponentLink1Description: Datasheet; ComponentLink1URL: http://search.murata.co.jp/Ceramy/image/img/PDF/ENG/L0075S0080LQW15A_00.pdf; ComponentLink2Description: Digi-Key listing; ComponentLink2URL: http://digikey.com/product-detail/en/LQW15AN8N7G00D/490-6851-2-ND/2594963; Price: 0.0807; Device Package: 0402 (1005 Metric)
footprint IND 0402/1005 RF WW
pins: 1, 2

## LQW15AN8N7J00D
designator L?, comment 8.7nH
FIXED IND 8.7NH 540MA 140 MOHM; Part Number: LQW15AN8N7J00D; Manufacturer: Murata Electronics North America; TemperatureRange: -55C ~ 125C; Tolerance: 5%; Type: Wirewound; Q at Frequency: 25 @ 250MHz; DC Resistance: 140 mOhm Max; Shielding: Unshielded; Value: 8.7nH; PartId: 6374; Supplier 1: Digi-Key; Supplier Part Number 1: 490-6852-2-ND; ComponentLink1Description: Datasheet; ComponentLink1URL: http://search.murata.co.jp/Ceramy/image/img/PDF/ENG/L0075S0080LQW15A_00.pdf; ComponentLink2Description: Digi-Key listing; ComponentLink2URL: http://digikey.com/product-detail/en/LQW15AN8N7J00D/490-6852-2-ND/2594965; Price: 0.0733; Device Package: 0402 (1005 Metric)
footprint IND 0402/1005 RF WW
pins: 1, 2

## LQW15AN9N1G00D
designator L?, comment 9.1nH
FIXED IND 9.1NH 540MA 140 MOHM; Part Number: LQW15AN9N1G00D; Manufacturer: Murata Electronics North America; TemperatureRange: -55C ~ 125C; Tolerance: 2%; Type: Wirewound; Q at Frequency: 25 @ 250MHz; DC Resistance: 140 mOhm Max; Shielding: Unshielded; Value: 9.1nH; PartId: 6429; Supplier 1: Digi-Key; Supplier Part Number 1: 490-6854-2-ND; ComponentLink1Description: Datasheet; ComponentLink1URL: http://search.murata.co.jp/Ceramy/image/img/PDF/ENG/L0075S0080LQW15A_00.pdf; ComponentLink2Description: Digi-Key listing; ComponentLink2URL: http://digikey.com/product-detail/en/LQW15AN9N1G00D/490-6854-2-ND/2594968; Price: 0.0807; Device Package: 0402 (1005 Metric)
footprint IND 0402/1005 RF WW
pins: 1, 2

## LQW15AN9N1H00D
designator L?, comment 9.1nH
FIXED IND 9.1NH 540MA 140 MOHM; Part Number: LQW15AN9N1H00D; Manufacturer: Murata Electronics North America; TemperatureRange: -55C ~ 125C; Tolerance: 3%; Type: Wirewound; Q at Frequency: 25 @ 250MHz; DC Resistance: 140 mOhm Max; Shielding: Unshielded; Value: 9.1nH; PartId: 6391; Supplier 1: Digi-Key; Supplier Part Number 1: 490-8444-2-ND; ComponentLink1Description: Datasheet; ComponentLink1URL: http://search.murata.co.jp/Ceramy/image/img/PDF/ENG/L0075S0080LQW15A_00.pdf; ComponentLink2Description: Digi-Key listing; ComponentLink2URL: http://digikey.com/product-detail/en/LQW15AN9N1H00D/490-8444-2-ND/2594969; Price: 0.077; Device Package: 0402 (1005 Metric)
footprint IND 0402/1005 RF WW
pins: 1, 2

## LQW15AN9N1J00D
designator L?, comment 9.1nH
FIXED IND 9.1NH 540MA 140 MOHM; Part Number: LQW15AN9N1J00D; Manufacturer: Murata Electronics North America; TemperatureRange: -55C ~ 125C; Tolerance: 5%; Type: Wirewound; Q at Frequency: 25 @ 250MHz; DC Resistance: 140 mOhm Max; Shielding: Unshielded; Value: 9.1nH; PartId: 6361; Supplier 1: Digi-Key; Supplier Part Number 1: 490-1145-2-ND; ComponentLink1Description: Datasheet; ComponentLink1URL: http://search.murata.co.jp/Ceramy/image/img/PDF/ENG/L0075S0080LQW15A_00.pdf; ComponentLink2Description: Digi-Key listing; ComponentLink2URL: http://digikey.com/product-detail/en/LQW15AN9N1J00D/490-1145-2-ND/584354; Price: 0.0689; Device Package: 0402 (1005 Metric)
footprint IND 0402/1005 RF WW
pins: 1, 2

## LQW15AN9N5G00D
designator L?, comment 9.5nH
FIXED IND 9.5NH 540MA 140 MOHM; Part Number: LQW15AN9N5G00D; Manufacturer: Murata Electronics North America; TemperatureRange: -55C ~ 125C; Tolerance: 2%; Type: Wirewound; Q at Frequency: 25 @ 250MHz; DC Resistance: 140 mOhm Max; Shielding: Unshielded; Value: 9.5nH; PartId: 6430; Supplier 1: Digi-Key; Supplier Part Number 1: 490-6855-2-ND; ComponentLink1Description: Datasheet; ComponentLink1URL: http://search.murata.co.jp/Ceramy/image/img/PDF/ENG/L0075S0080LQW15A_00.pdf; ComponentLink2Description: Digi-Key listing; ComponentLink2URL: http://digikey.com/product-detail/en/LQW15AN9N5G00D/490-6855-2-ND/2594970; Price: 0.0807; Device Package: 0402 (1005 Metric)
footprint IND 0402/1005 RF WW
pins: 1, 2

## LQW15AN10NG00D
designator L?, comment 10nH
FIXED IND 10NH 500MA 170 MOHM; Part Number: LQW15AN10NG00D; Manufacturer: Murata Electronics North America; TemperatureRange: -55C ~ 125C; Tolerance: 2%; Type: Wirewound; Q at Frequency: 25 @ 250MHz; DC Resistance: 170 mOhm Max; Shielding: Unshielded; Value: 10nH; PartId: 6397; Supplier 1: Digi-Key; Supplier Part Number 1: 490-6762-2-ND; ComponentLink1Description: Datasheet; ComponentLink1URL: http://search.murata.co.jp/Ceramy/image/img/PDF/ENG/L0075S0080LQW15A_00.pdf; ComponentLink2Description: Digi-Key listing; ComponentLink2URL: http://digikey.com/product-detail/en/LQW15AN10NG00D/490-6762-2-ND/2594843; Price: 0.0807; Device Package: 0402 (1005 Metric)
footprint IND 0402/1005 RF WW
pins: 1, 2

## LQW15AN10NJ00D
designator L?, comment 10nH
FIXED IND 10NH 500MA 170 MOHM; Part Number: LQW15AN10NJ00D; Manufacturer: Murata Electronics North America; TemperatureRange: -55C ~ 125C; Tolerance: 5%; Type: Wirewound; Q at Frequency: 25 @ 250MHz; DC Resistance: 170 mOhm Max; Shielding: Unshielded; Value: 10nH; PartId: 6350; Supplier 1: Digi-Key; Supplier Part Number 1: 490-1146-2-ND; ComponentLink1Description: Datasheet; ComponentLink1URL: http://search.murata.co.jp/Ceramy/image/img/PDF/ENG/L0075S0080LQW15A_00.pdf; ComponentLink2Description: Digi-Key listing; ComponentLink2URL: http://digikey.com/product-detail/en/LQW15AN10NJ00D/490-1146-2-ND/584355; Price: 0.0689; Device Package: 0402 (1005 Metric)
footprint IND 0402/1005 RF WW
pins: 1, 2

## LQW15AN11NH00D
designator L?, comment 11nH
FIXED IND 11NH 500MA 140 MOHM; Part Number: LQW15AN11NH00D; Manufacturer: Murata Electronics North America; TemperatureRange: -55C ~ 125C; Tolerance: 3%; Type: Wirewound; Q at Frequency: 30 @ 250MHz; DC Resistance: 140 mOhm Max; Shielding: Unshielded; Value: 11nH; PartId: 6385; Supplier 1: Digi-Key; Supplier Part Number 1: 490-6765-2-ND; ComponentLink1Description: Datasheet; ComponentLink1URL: http://search.murata.co.jp/Ceramy/image/img/PDF/ENG/L0075S0080LQW15A_00.pdf; ComponentLink2Description: Digi-Key listing; ComponentLink2URL: http://digikey.com/product-detail/en/LQW15AN11NH00D/490-6765-2-ND/2594849; Price: 0.077; Device Package: 0402 (1005 Metric)
footprint IND 0402/1005 RF WW
pins: 1, 2

## LQW15AN11NJ00D
designator L?, comment 11nH
FIXED IND 11NH 500MA 140 MOHM; Part Number: LQW15AN11NJ00D; Manufacturer: Murata Electronics North America; TemperatureRange: -55C ~ 125C; Tolerance: 5%; Type: Wirewound; Q at Frequency: 30 @ 250MHz; DC Resistance: 140 mOhm Max; Shielding: Unshielded; Value: 11nH; PartId: 6366; Supplier 1: Digi-Key; Supplier Part Number 1: 490-6766-2-ND; ComponentLink1Description: Datasheet; ComponentLink1URL: http://search.murata.co.jp/Ceramy/image/img/PDF/ENG/L0075S0080LQW15A_00.pdf; ComponentLink2Description: Digi-Key listing; ComponentLink2URL: http://digikey.com/product-detail/en/LQW15AN11NJ00D/490-6766-2-ND/2594850; Price: 0.0733; Device Package: 0402 (1005 Metric)
footprint IND 0402/1005 RF WW
pins: 1, 2

## LQW15AN12NJ00D
designator L?, comment 12nH
FIXED IND 12NH 500MA 140 MOHM; Part Number: LQW15AN12NJ00D; Manufacturer: Murata Electronics North America; TemperatureRange: -55C ~ 125C; Tolerance: 5%; Type: Wirewound; Q at Frequency: 30 @ 250MHz; DC Resistance: 140 mOhm Max; Shielding: Unshielded; Value: 12nH; PartId: 6351; Supplier 1: Digi-Key; Supplier Part Number 1: 490-1147-2-ND; ComponentLink1Description: Datasheet; ComponentLink1URL: http://search.murata.co.jp/Ceramy/image/img/PDF/ENG/L0075S0080LQW15A_00.pdf; ComponentLink2Description: Digi-Key listing; ComponentLink2URL: http://digikey.com/product-detail/en/LQW15AN12NJ00D/490-1147-2-ND/584356; Price: 0.0689; Device Package: 0402 (1005 Metric)
footprint IND 0402/1005 RF WW
pins: 1, 2

## LQW15AN13NG00D
designator L?, comment 13nH
FIXED IND 13NH 430MA 210 MOHM; Part Number: LQW15AN13NG00D; Manufacturer: Murata Electronics North America; TemperatureRange: -55C ~ 125C; Tolerance: 2%; Type: Wirewound; Q at Frequency: 25 @ 250MHz; DC Resistance: 210 mOhm Max; Shielding: Unshielded; Value: 13nH; PartId: 6419; Supplier 1: Digi-Key; Supplier Part Number 1: 490-6769-2-ND; ComponentLink1Description: Datasheet; ComponentLink1URL: http://search.murata.co.jp/Ceramy/image/img/PDF/ENG/L0075S0080LQW15A_00.pdf; ComponentLink2Description: Digi-Key listing; ComponentLink2URL: http://digikey.com/product-detail/en/LQW15AN13NG00D/490-6769-2-ND/2594853; Price: 0.0807; Device Package: 0402 (1005 Metric)
footprint IND 0402/1005 RF WW
pins: 1, 2

## LQW15AN13NJ00D
designator L?, comment 13nH
FIXED IND 13NH 430MA 210 MOHM; Part Number: LQW15AN13NJ00D; Manufacturer: Murata Electronics North America; TemperatureRange: -55C ~ 125C; Tolerance: 5%; Type: Wirewound; Q at Frequency: 25 @ 250MHz; DC Resistance: 210 mOhm Max; Shielding: Unshielded; Value: 13nH; PartId: 6371; Supplier 1: Digi-Key; Supplier Part Number 1: 490-6770-2-ND; ComponentLink1Description: Datasheet; ComponentLink1URL: http://search.murata.co.jp/Ceramy/image/img/PDF/ENG/L0075S0080LQW15A_00.pdf; ComponentLink2Description: Digi-Key listing; ComponentLink2URL: http://digikey.com/product-detail/en/LQW15AN13NJ00D/490-6770-2-ND/2594854; Price: 0.0733; Device Package: 0402 (1005 Metric)
footprint IND 0402/1005 RF WW
pins: 1, 2

## LQW15AN15NG00D
designator L?, comment 15nH
FIXED IND 15NH 460MA 160 MOHM; Part Number: LQW15AN15NG00D; Manufacturer: Murata Electronics North America; TemperatureRange: -55C ~ 125C; Tolerance: 2%; Type: Wirewound; Q at Frequency: 30 @ 250MHz; DC Resistance: 160 mOhm Max; Shielding: Unshielded; Value: 15nH; PartId: 6402; Supplier 1: Digi-Key; Supplier Part Number 1: 490-6771-2-ND; ComponentLink1Description: Datasheet; ComponentLink1URL: http://search.murata.co.jp/Ceramy/image/img/PDF/ENG/L0075S0080LQW15A_00.pdf; ComponentLink2Description: Digi-Key listing; ComponentLink2URL: http://digikey.com/product-detail/en/LQW15AN15NG00D/490-6771-2-ND/2594855; Price: 0.0807; Device Package: 0402 (1005 Metric)
footprint IND 0402/1005 RF WW
pins: 1, 2

## LQW15AN15NH00D
designator L?, comment 15nH
FIXED IND 15NH 460MA 160 MOHM; Part Number: LQW15AN15NH00D; Manufacturer: Murata Electronics North America; TemperatureRange: -55C ~ 125C; Tolerance: 3%; Type: Wirewound; Q at Frequency: 30 @ 250MHz; DC Resistance: 160 mOhm Max; Shielding: Unshielded; Value: 15nH; PartId: 6377; Supplier 1: Digi-Key; Supplier Part Number 1: 490-6772-2-ND; ComponentLink1Description: Datasheet; ComponentLink1URL: http://search.murata.co.jp/Ceramy/image/img/PDF/ENG/L0075S0080LQW15A_00.pdf; ComponentLink2Description: Digi-Key listing; ComponentLink2URL: http://digikey.com/product-detail/en/LQW15AN15NH00D/490-6772-2-ND/2594856; Price: 0.077; Device Package: 0402 (1005 Metric)
footprint IND 0402/1005 RF WW
pins: 1, 2

## LQW15AN15NJ00D
designator L?, comment 15nH
FIXED IND 15NH 460MA 160 MOHM; Part Number: LQW15AN15NJ00D; Manufacturer: Murata Electronics North America; TemperatureRange: -55C ~ 125C; Tolerance: 5%; Type: Wirewound; Q at Frequency: 30 @ 250MHz; DC Resistance: 160 mOhm Max; Shielding: Unshielded; Value: 15nH; PartId: 6353; Supplier 1: Digi-Key; Supplier Part Number 1: 490-1148-2-ND; ComponentLink1Description: Datasheet; ComponentLink1URL: http://search.murata.co.jp/Ceramy/image/img/PDF/ENG/L0075S0080LQW15A_00.pdf; ComponentLink2Description: Digi-Key listing; ComponentLink2URL: http://digikey.com/product-detail/en/LQW15AN15NJ00D/490-1148-2-ND/584357; Price: 0.0689; Device Package: 0402 (1005 Metric)
footprint IND 0402/1005 RF WW
pins: 1, 2

## LQW15AN16NH00D
designator L?, comment 16nH
FIXED IND 16NH 370MA 240 MOHM; Part Number: LQW15AN16NH00D; Manufacturer: Murata Electronics North America; TemperatureRange: -55C ~ 125C; Tolerance: 3%; Type: Wirewound; Q at Frequency: 25 @ 250MHz; DC Resistance: 240 mOhm Max; Shielding: Unshielded; Value: 16nH; PartId: 6392; Supplier 1: Digi-Key; Supplier Part Number 1: 490-6774-2-ND; ComponentLink1Description: Datasheet; ComponentLink1URL: http://search.murata.co.jp/Ceramy/image/img/PDF/ENG/L0075S0080LQW15A_00.pdf; ComponentLink2Description: Digi-Key listing; ComponentLink2URL: http://digikey.com/product-detail/en/LQW15AN16NH00D/490-6774-2-ND/2594858; Price: 0.077; Device Package: 0402 (1005 Metric)
footprint IND 0402/1005 RF WW
pins: 1, 2

## LQW15AN19NG00D
designator L?, comment 19nH
FIXED IND 19NH 370MA 270 MOHM; Part Number: LQW15AN19NG00D; Manufacturer: Murata Electronics North America; TemperatureRange: -55C ~ 125C; Tolerance: 2%; Type: Wirewound; Q at Frequency: 25 @ 250MHz; DC Resistance: 270 mOhm Max; Shielding: Unshielded; Value: 19nH; PartId: 6409; Supplier 1: Digi-Key; Supplier Part Number 1: 490-6778-2-ND; ComponentLink1Description: Datasheet; ComponentLink1URL: http://search.murata.co.jp/Ceramy/image/img/PDF/ENG/L0075S0080LQW15A_00.pdf; ComponentLink2Description: Digi-Key listing; ComponentLink2URL: http://digikey.com/product-detail/en/LQW15AN19NG00D/490-6778-2-ND/2594862; Price: 0.0807; Device Package: 0402 (1005 Metric)
footprint IND 0402/1005 RF WW
pins: 1, 2

## LQW15AN20NG00D
designator L?, comment 20nH
FIXED IND 20NH 370MA 270 MOHM; Part Number: LQW15AN20NG00D; Manufacturer: Murata Electronics North America; TemperatureRange: -55C ~ 125C; Tolerance: 2%; Type: Wirewound; Q at Frequency: 25 @ 250MHz; DC Resistance: 270 mOhm Max; Shielding: Unshielded; Value: 20nH; PartId: 6420; Supplier 1: Digi-Key; Supplier Part Number 1: 490-6784-2-ND; ComponentLink1Description: Datasheet; ComponentLink1URL: http://search.murata.co.jp/Ceramy/image/img/PDF/ENG/L0075S0080LQW15A_00.pdf; ComponentLink2Description: Digi-Key listing; ComponentLink2URL: http://digikey.com/product-detail/en/LQW15AN20NG00D/490-6784-2-ND/2594869; Price: 0.0807; Device Package: 0402 (1005 Metric)
footprint IND 0402/1005 RF WW
pins: 1, 2

## LQW15AN20NH00D
designator L?, comment 20nH
FIXED IND 20NH 370MA 270 MOHM; Part Number: LQW15AN20NH00D; Manufacturer: Murata Electronics North America; TemperatureRange: -55C ~ 125C; Tolerance: 3%; Type: Wirewound; Q at Frequency: 25 @ 250MHz; DC Resistance: 270 mOhm Max; Shielding: Unshielded; Value: 20nH; PartId: 6387; Supplier 1: Digi-Key; Supplier Part Number 1: 490-6785-2-ND; ComponentLink1Description: Datasheet; ComponentLink1URL: http://search.murata.co.jp/Ceramy/image/img/PDF/ENG/L0075S0080LQW15A_00.pdf; ComponentLink2Description: Digi-Key listing; ComponentLink2URL: http://digikey.com/product-detail/en/LQW15AN20NH00D/490-6785-2-ND/2594870; Price: 0.077; Device Package: 0402 (1005 Metric)
footprint IND 0402/1005 RF WW
pins: 1, 2